# EAGLE library part PC16SG (library #Potenciometry)
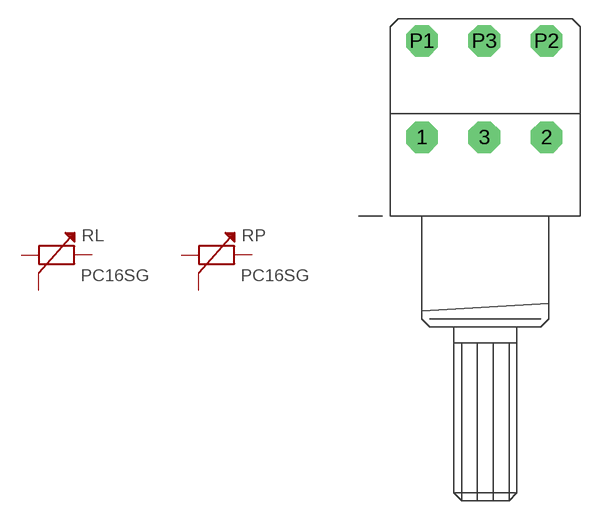
[diagram p3: symbol with the pads of PC16SL; footprint PC16SL]

Designator prefix R; gates L=TRIMR P=TRIMR

## PC16SG  [PC16SL]
1  L:1  pas
2  L:3  pas
3  L:2  pas
P1  P:1  pas
P2  P:3  pas
P3  P:2  pas

## Footprint PC16SL (pad centres in mm)
drill 1.2 pad 2.54 octagon: 1 0,0; 2 10,0; 3 5,0; P1 0,7.74; P2 10,7.74; P3 5,7.74